# Altium footprint library recall.PcbLib: 36 footprints (part 1 of 3)
Each footprint in its own frame and in the unit in brackets; x right, y up, seen from the top. Pads: shape width x height; smd on the part's side, far side on the other; paste and mask are expansions set on the pad; w line width, h text height; cw(c..) or ccw(c..) is an arc to the next point about the centre after c.
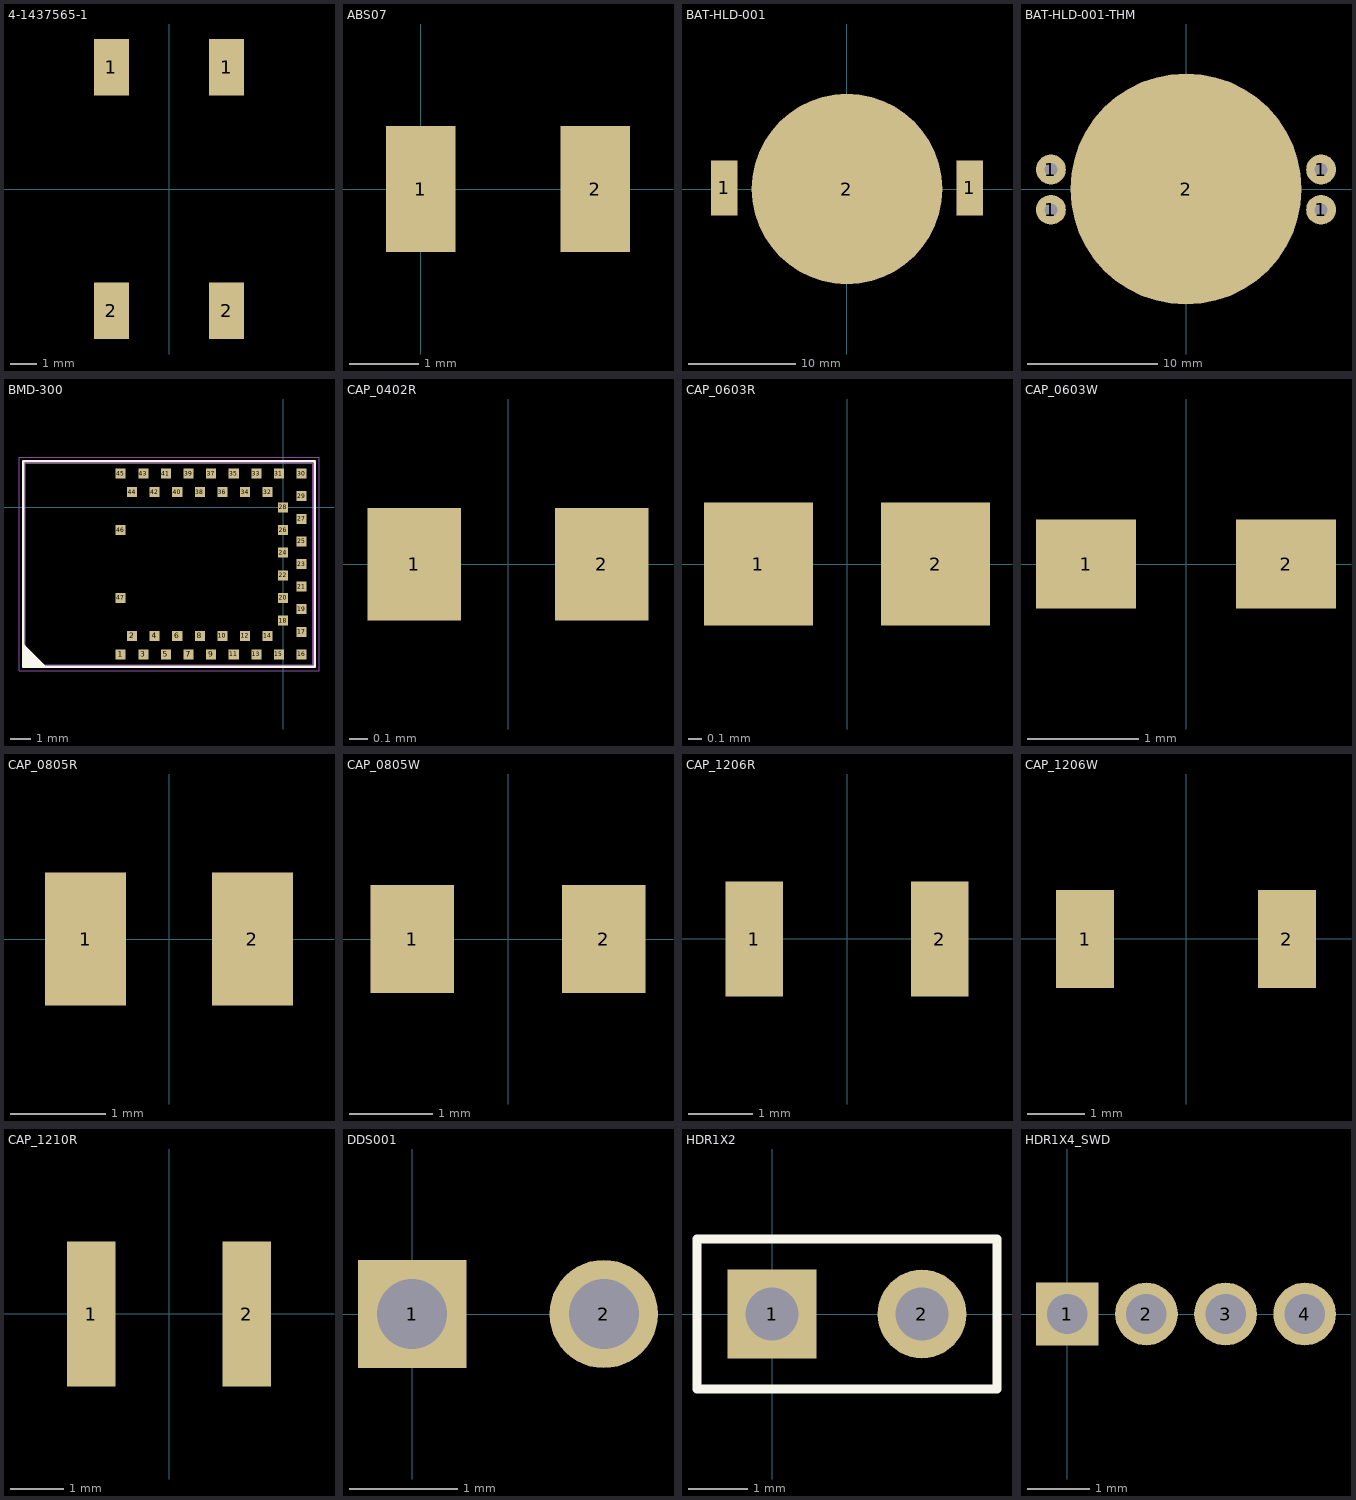
[diagram p0: the footprints below, top view; thin cyan lines are the x and y axes]

## 4-1437565-1 [mm] "TE Tactile Switch, 6mm x 6mm x 4mm"
height 3.6
pads (4):
  rect 1.3x2.1 smd: 1(-2.15,4.55) 1(2.15,4.55) 2(-2.15,-4.55) 2(2.15,-4.55)
3D body "4-1437565-1.stp": height 5.05, standoff -0.03, extent -3,-5 3,5

## ABS07 [mm] "ABS07-32.768KHZ-T"
pads (2):
  rect 1x1.8 smd: 1(0,0) 2(2.5,0)
3D body "ABS07.STEP": height 0.89, standoff 0, extent -0.356,-0.737 2.845,0.762

## BAT-HLD-001 [mm] "Battery holder for CR2032"
pads (3):
  rect 2.5x5.1 smd: 1(-11.45,0.1) 1(11.45,0.1)
  round 17.8 smd: 2(0,0)
3D body "2032_battery.STEP": height 3.2, standoff 0, extent -10,-10.127 10,9.873
3D body "keystone_3002_smd_battery_holder.step": height 3.96, standoff 0, extent -15.367,-10.154 15.367,9.9

## BAT-HLD-001-THM [mm] "Battery holder for CR2032"
pads (5):
  round 2.3 hole 1: 1(-10.4,-1.6) 1(-10.4,1.5) 1(10.4,-1.6) 1(10.4,1.5)
  round 17.8 smd: 2(0,0)
3D body "2032_battery.STEP": height 3.2, standoff 0, extent -10,-10.127 10,9.873
3D body "keystone_3002_smd_battery_holder.step": height 3.96, standoff 0, extent -15.367,-10.154 15.367,9.9

## BMD-300 [mm] "BMD-300, LGA, 47pin ,1.1mm Pitch, 14mm x 9.8mm"
height 1.9
pads (47):
  rect 0.49x0.49 smd: 1(-7.9,-7.15) 2(-7.35,-6.25) 3(-6.8,-7.15) 4(-6.25,-6.25) 5(-5.7,-7.15) 6(-5.15,-6.25) 7(-4.6,-7.15) 8(-4.05,-6.25) 9(-3.5,-7.15) 10(-2.95,-6.25) 11(-2.4,-7.15) 12(-1.85,-6.25) 13(-1.3,-7.15) 14(-0.75,-6.25) 15(-0.2,-7.15) 16(0.9,-7.15) 17(0.9,-6.05) 18(0,-5.5) 19(0.9,-4.95) 20(0,-4.4) 21(0.9,-3.85) 22(0,-3.3) 23(0.9,-2.75) 24(0,-2.2) 25(0.9,-1.65) 26(0,-1.1) 27(0.9,-0.55) 28(0,0) 29(0.9,0.55) 30(0.9,1.65) 31(-0.2,1.65) 32(-0.75,0.75) 33(-1.3,1.65) 34(-1.85,0.75) 35(-2.4,1.65) 36(-2.95,0.75) 37(-3.5,1.65) 38(-4.05,0.75) 39(-4.6,1.65) 40(-5.15,0.75) 41(-5.7,1.65) 42(-6.25,0.75) 43(-6.8,1.65) 44(-7.35,0.75) 45(-7.9,1.65) 46(-7.9,-1.1) 47(-7.9,-4.4)
Top Overlay:
  region: -11.625,-7.725 -12.625,-6.725 -12.625,-7.725
  lines w0.127: -12.623,-6.717 -11.623,-7.717 ; -12.65,-7.75 -12.65,2.25 1.55,2.25 1.55,-7.75 -12.65,-7.75
Mechanical 13:
  lines w0.05: -12.55,-7.65 -12.55,2.15 1.45,2.15 1.45,-7.65 -12.55,-7.65
Mechanical 15:
  lines w0.05: -12.85,-7.95 -12.85,2.45 1.75,2.45 1.75,-7.95 -12.85,-7.95
Multi-Layer:
  pour cut-out: -8.15,-7.65 -8.15,2.15 -12.55,2.15 -12.55,-7.65
3D body "BMD-300_assembly.STEP": height 1.89, standoff 0.05, extent -12.55,-7.65 1.45,2.15

## CAP_0402R [mm] "Capacitor 0402 reflow soldering"
pads (2):
  rect 0.5x0.6 smd: 1(-0.5,0) 2(0.5,0)
3D body "CAP0402.stp": height 0.2, standoff 0, extent -0.5,-0.3 0.5,0.3

## CAP_0603R [mm] "capacitor 0603 reflow soldering"
pads (2):
  rect 0.8x0.9 smd: 1(-0.65,0) 2(0.65,0)
3D body "CAP0603.stp": height 0.3, standoff 0, extent -0.8,-0.4 0.8,0.4

## CAP_0603W [mm] "capacitor 0603 wave soldering"
pads (2):
  rect 0.9x0.8 smd: 1(-0.9,0) 2(0.9,0)
3D body "CAP0603.stp": height 0.3, standoff 0, extent -0.8,-0.4 0.8,0.4

## CAP_0805R [mm] "capacitor 0805 reflow soldering"
pads (2):
  rect 0.85x1.4 smd: 1(-0.875,0) 2(0.875,0)
3D body "CAP0805.stp": height 0.78, standoff 0, extent -1,-0.625 1,0.625

## CAP_0805W [mm] "capacitor 0805 wave soldering"
pads (2):
  rect 1x1.3 smd: 1(-1.15,0) 2(1.15,0)
3D body "CAP0805.stp": height 0.78, standoff 0, extent -1,-0.625 1,0.625

## CAP_1206R [mm] "capacitor 1206 reflow soldering"
pads (2):
  rect 0.9x1.8 smd: 1(-1.45,0) 2(1.45,0)
3D body "CAP1206.stp": height 1, standoff 0, extent -1.6,-0.8 1.6,0.8

## CAP_1206W [mm] "capacitor 1206 wave soldering"
pads (2):
  rect 1x1.7 smd: 1(-1.75,0) 2(1.75,0)
3D body "CAP1206.stp": height 1, standoff 0, extent -1.6,-0.8 1.6,0.8

## CAP_1210R [mm] "capacitor 1210 reflow soldering"
pads (2):
  rect 0.9x2.7 smd: 1(-1.45,0) 2(1.45,0)
3D body "CAP1210.stp": height 0.92, standoff -0.02, extent -1.6,-1.25 1.6,1.25

## DDS001 [mm] "Micro Mini Thru-hole Detect Switches"
pads (2):
  rect 1.006x1.006 hole 0.65: 1(0,0)
  round 1.006 hole 0.65: 2(1.778,0)

## HDR1X2 [mm] "Connector; Header; 2 Position"
pads (2):
  rect 1.5x1.5 hole 0.9: 1(0,0)
  round 1.5 hole 0.9: 2(2.54,0)
Top Overlay:
  lines w0.152: -1.27,-1.27 -1.27,1.27 3.81,1.27 3.81,-1.27 -1.27,-1.27
3D body "SSW-102-02-X-S-RA.step": height 2.48, standoff -2.48, extent -1.519,-0.202 4.069,10.034

## HDR1X4_SWD [mm] "Connector; Header; 1x4Position"
pads (4):
  rect 1.006x1.006 hole 0.65: 1(0,0)
  round 1.006 hole 0.65: 2(1.27,0) 3(2.54,0) 4(3.81,0)